# EAGLE library part 87340-20 (library con-molex-milli-grid)
RECEPTACAL
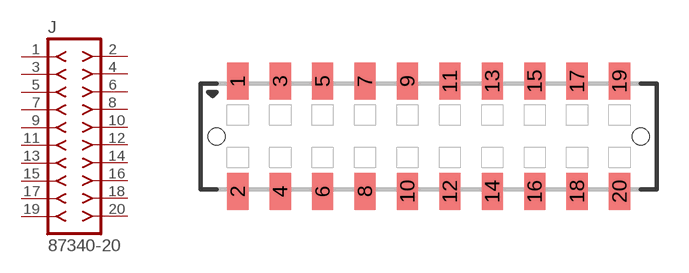
[diagram p234: symbol with the pads of 87340-20; footprint 87340-20]

Designator prefix J

## 87340-20  [87340-20]
1  1  pas
2  2  pas
3  3  pas
4  4  pas
5  5  pas
6  6  pas
7  7  pas
8  8  pas
9  9  pas
10  10  pas
11  11  pas
12  12  pas
13  13  pas
14  14  pas
15  15  pas
16  16  pas
17  17  pas
18  18  pas
19  19  pas
20  20  pas

## Footprint 87340-20 (pad centres in mm)
RECEPTACAL SMD Dual Row, Vertical, Low Profile
smd 1 x 1.75: 1 -9,2.6; 2 -9,-2.6; 3 -7,2.6; 4 -7,-2.6; 5 -5,2.6; 6 -5,-2.6; 7 -3,2.6; 8 -3,-2.6; 9 -1,2.6; 10 -1,-2.6; 11 1,2.6; 12 1,-2.6; 13 3,2.6; 14 3,-2.6; 15 5,2.6; 16 5,-2.6; 17 7,2.6; 18 7,-2.6; 19 9,2.6; 20 9,-2.6
hole 0.8 at -10,0
hole 0.8 at 10,0